# EAGLE library part TPS62153AQRGTTQ1 (library dc-dc)
Buck Switching Regulator IC Positive Fixed 5V 1 Output 1A 16-VFQFN Exposed Pad
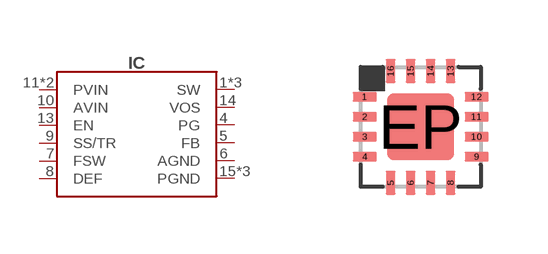
[diagram p13: symbol with the pads of 16-VQFN(3X3); footprint 16-VQFN(3X3)]

Designator prefix IC

## TPS62153AQRGTTQ1 (DIGIKEY#: 296-44364-2-ND; MANF: Texas Instruments; MANF#: TPS62153RGTR)  [16-VQFN(3X3)]
1  SW
2  SW
3  SW
4  PG
5  FB
6  AGND
7  FSW
8  DEF
9  SS/TR
10  AVIN
11  PVIN
12  PVIN
13  EN
14  VOS
15  PGND
16  PGND
EP  PGND

## Footprint 16-VQFN(3X3) (pad centres in mm)
smd 0.6 x 0.24: 1 -1.4,0.75; 2 -1.4,0.25; 3 -1.4,-0.25; 4 -1.4,-0.75; 9 1.4,-0.75; 10 1.4,-0.25; 11 1.4,0.25; 12 1.4,0.75
smd 0.24 x 0.6: 5 -0.75,-1.4; 6 -0.25,-1.4; 7 0.25,-1.4; 8 0.75,-1.4; 13 0.75,1.4; 14 0.25,1.4; 15 -0.25,1.4; 16 -0.75,1.4
smd 1.68 x 1.68: EP 0,0